# Altium footprint library Amplifier.PcbLib: 107 footprints (part 7 of 7)
Each footprint in its own frame and in the unit in brackets; x right, y up, seen from the top. Pads: shape width x height; smd on the part's side, far side on the other; paste and mask are expansions set on the pad; w line width, h text height; cw(c..) or ccw(c..) is an arc to the next point about the centre after c.
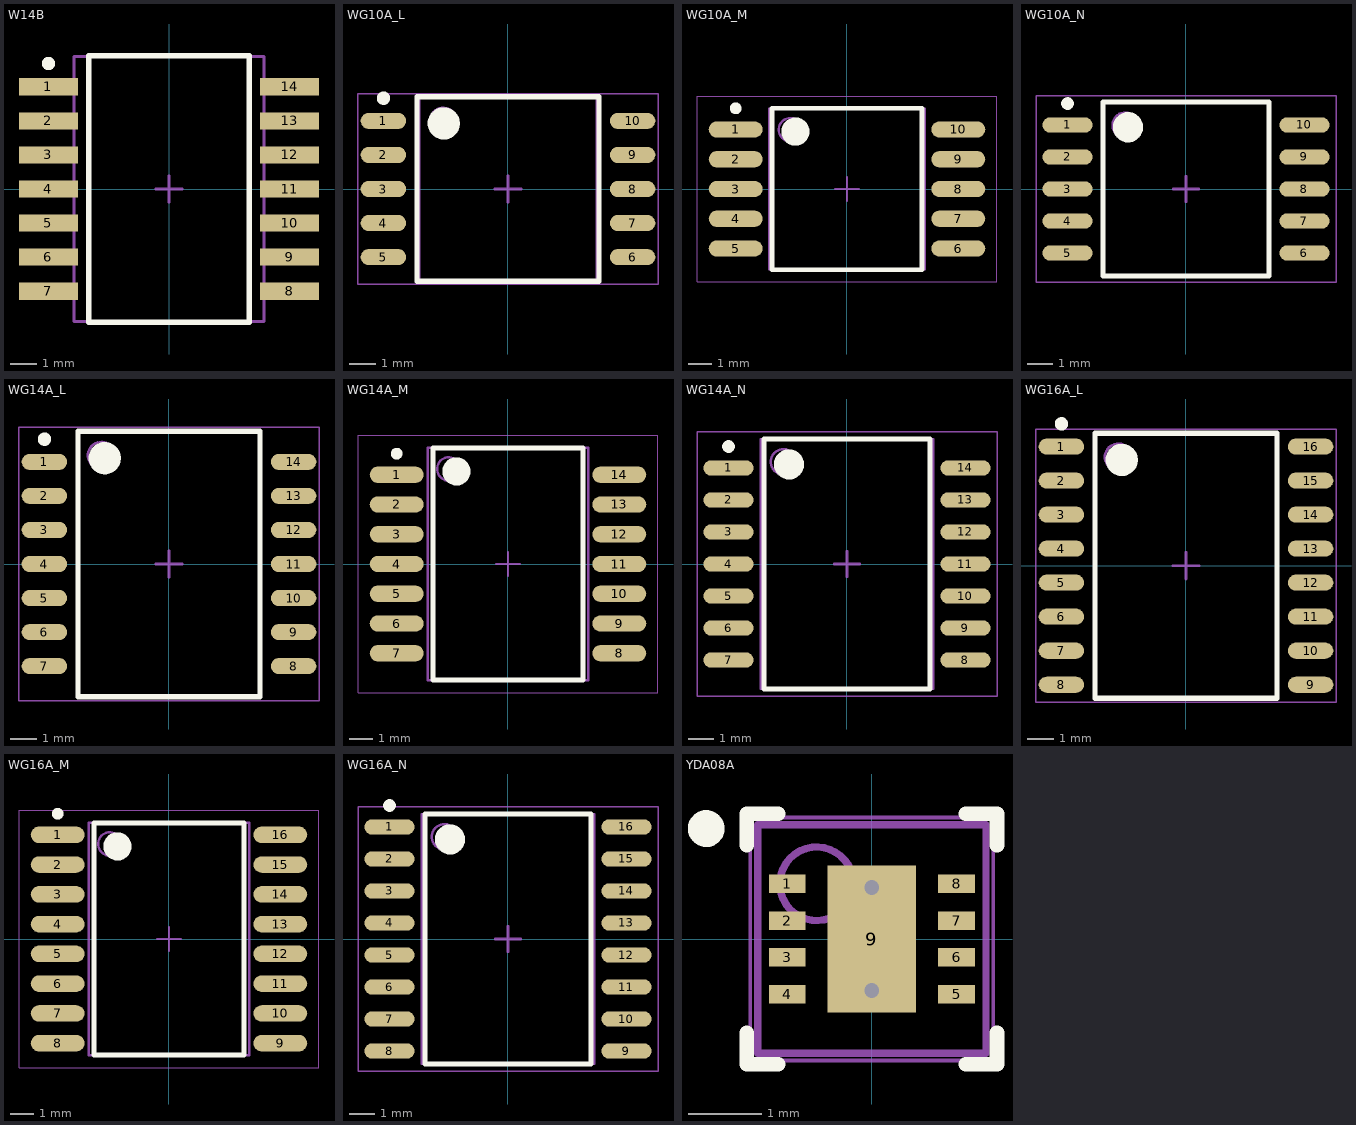
[diagram p6: the footprints below, top view; thin cyan lines are the x and y axes]

## W14B [mm] "DFP; 14 Leads; Body 9.9 x 6.6 mm (LxW max); Pitch 1.27 mm"
height 2.04
pads (14):
  rect 2.2x0.65 smd: 1(-4.5,3.81) 2(-4.5,2.54) 3(-4.5,1.27) 4(-4.5,0) 5(-4.5,-1.27) 6(-4.5,-2.54) 7(-4.5,-3.81) 8(4.5,-3.81) 9(4.5,-2.54) 10(4.5,-1.27) 11(4.5,0) 12(4.5,1.27) 13(4.5,2.54) 14(4.5,3.81)
Top Overlay:
  circle w0.25: c-4.5,4.685 r0.125
  lines w0.2: -3,-4.975 3,-4.975 3,4.975 -3,4.975 -3,-4.975
Mechanical 13:
  lines w0.1: -3.55,-4.95 -3.55,4.95 3.55,4.95 3.55,-4.95 -3.55,-4.95
Mechanical 15:
  lines w0.1: -0.5,0 0.5,0 ; 0,-0.5 0,0.5
3D body: height 2.04, standoff 0, extent -3.549,-4.949 3.549,4.949

## WG10A_L [mm] "CERPACK, 10-Leads, Body 6.9x6.3mm, Pitch 1.27mm, IPC High Density"
height 2.25
pads (10):
  oval 1.7x0.6 smd: 1(-4.65,2.54) 2(-4.65,1.27) 3(-4.65,0) 4(-4.65,-1.27) 5(-4.65,-2.54) 6(4.65,-2.54) 7(4.65,-1.27) 8(4.65,0) 9(4.65,1.27) 10(4.65,2.54)
Top Overlay:
  circle w0.25: c-4.65,3.39 r0.125
  circle w0.6: c-2.4,2.45 r0.3
  lines w0.2: -3.4,-3.45 -3.4,3.45 3.4,3.45 3.4,-3.45 -3.4,-3.45
Mechanical 13:
  circle w0.1: c-2.415,2.53 r0.5
  lines w0.1: -3.315,-3.43 -3.315,3.43 3.315,3.43 3.315,-3.43 -3.315,-3.43
Mechanical 15:
  lines w0.05: -5.6,-3.55 -5.6,3.55 5.6,3.55 5.6,-3.55 -5.6,-3.55
  lines w0.1: -0.5,0 0.5,0 ; 0,-0.5 0,0.5
3D body: height 2.25, standoff 0.1, extent -3.315,-3.43 3.315,3.43

## WG10A_M [mm] "CERPACK, 10-Leads, Body 6.9x6.3mm, Pitch 1.27mm, IPC Low Density"
height 2.25
pads (10):
  oval 2.3x0.7 smd: 1(-4.75,2.54) 2(-4.75,1.27) 3(-4.75,0) 4(-4.75,-1.27) 5(-4.75,-2.54) 6(4.75,-2.54) 7(4.75,-1.27) 8(4.75,0) 9(4.75,1.27) 10(4.75,2.54)
Top Overlay:
  circle w0.25: c-4.75,3.44 r0.125
  circle w0.6: c-2.2,2.45 r0.3
  lines w0.2: -3.2,-3.45 -3.2,3.45 3.2,3.45 3.2,-3.45 -3.2,-3.45
Mechanical 13:
  circle w0.1: c-2.415,2.53 r0.5
  lines w0.1: -3.315,-3.43 -3.315,3.43 3.315,3.43 3.315,-3.43 -3.315,-3.43
Mechanical 15:
  lines w0.05: -6.4,-3.95 -6.4,3.95 6.4,3.95 6.4,-3.95 -6.4,-3.95
  lines w0.1: -0.5,0 0.5,0 ; 0,-0.5 0,0.5
3D body: height 2.25, standoff 0.1, extent -3.315,-3.43 3.315,3.43

## WG10A_N [mm] "CERPACK, 10-Leads, Body 6.9x6.3mm, Pitch 1.27mm, IPC Medium Density"
height 2.25
pads (10):
  oval 2x0.6 smd: 1(-4.7,2.54) 2(-4.7,1.27) 3(-4.7,0) 4(-4.7,-1.27) 5(-4.7,-2.54) 6(4.7,-2.54) 7(4.7,-1.27) 8(4.7,0) 9(4.7,1.27) 10(4.7,2.54)
Top Overlay:
  circle w0.25: c-4.7,3.39 r0.125
  circle w0.6: c-2.3,2.45 r0.3
  lines w0.2: -3.3,-3.45 -3.3,3.45 3.3,3.45 3.3,-3.45 -3.3,-3.45
Mechanical 13:
  circle w0.1: c-2.415,2.53 r0.5
  lines w0.1: -3.315,-3.43 -3.315,3.43 3.315,3.43 3.315,-3.43 -3.315,-3.43
Mechanical 15:
  lines w0.05: -5.95,-3.7 -5.95,3.7 5.95,3.7 5.95,-3.7 -5.95,-3.7
  lines w0.1: -0.5,0 0.5,0 ; 0,-0.5 0,0.5
3D body: height 2.25, standoff 0.1, extent -3.315,-3.43 3.315,3.43

## WG14A_L [mm] "CERPACK, 14-Leads, Body 9.9x6.5mm, Pitch 1.27mm, IPC High Density"
height 2.24
pads (14):
  oval 1.7x0.6 smd: 1(-4.65,3.81) 2(-4.65,2.54) 3(-4.65,1.27) 4(-4.65,0) 5(-4.65,-1.27) 6(-4.65,-2.54) 7(-4.65,-3.81) 8(4.65,-3.81) 9(4.65,-2.54) 10(4.65,-1.27) 11(4.65,0) 12(4.65,1.27) 13(4.65,2.54) 14(4.65,3.81)
Top Overlay:
  circle w0.25: c-4.65,4.66 r0.125
  circle w0.6: c-2.4,3.95 r0.3
  lines w0.2: -3.4,-4.95 -3.4,4.95 3.4,4.95 3.4,-4.95 -3.4,-4.95
Mechanical 13:
  circle w0.1: c-2.525,4.055 r0.5
  lines w0.1: -3.425,-4.955 -3.425,4.955 3.425,4.955 3.425,-4.955 -3.425,-4.955
Mechanical 15:
  lines w0.05: -5.6,-5.1 -5.6,5.1 5.6,5.1 5.6,-5.1 -5.6,-5.1
  lines w0.1: -0.5,0 0.5,0 ; 0,-0.5 0,0.5
3D body: height 2.24, standoff 0.1, extent -3.425,-4.955 3.425,4.955

## WG14A_M [mm] "CERPACK, 14-Leads, Body 9.9x6.5mm, Pitch 1.27mm, IPC Low Density"
height 2.24
pads (14):
  oval 2.3x0.7 smd: 1(-4.75,3.81) 2(-4.75,2.54) 3(-4.75,1.27) 4(-4.75,0) 5(-4.75,-1.27) 6(-4.75,-2.54) 7(-4.75,-3.81) 8(4.75,-3.81) 9(4.75,-2.54) 10(4.75,-1.27) 11(4.75,0) 12(4.75,1.27) 13(4.75,2.54) 14(4.75,3.81)
Top Overlay:
  circle w0.25: c-4.75,4.71 r0.125
  circle w0.6: c-2.2,3.95 r0.3
  lines w0.2: -3.2,-4.95 -3.2,4.95 3.2,4.95 3.2,-4.95 -3.2,-4.95
Mechanical 13:
  circle w0.1: c-2.525,4.055 r0.5
  lines w0.1: -3.425,-4.955 -3.425,4.955 3.425,4.955 3.425,-4.955 -3.425,-4.955
Mechanical 15:
  lines w0.05: -6.4,-5.5 -6.4,5.5 6.4,5.5 6.4,-5.5 -6.4,-5.5
  lines w0.1: -0.5,0 0.5,0 ; 0,-0.5 0,0.5
3D body: height 2.24, standoff 0.1, extent -3.425,-4.955 3.425,4.955

## WG14A_N [mm] "CERPACK, 14-Leads, Body 9.9x6.5mm, Pitch 1.27mm, IPC Medium Density"
height 2.24
pads (14):
  oval 2x0.6 smd: 1(-4.7,3.81) 2(-4.7,2.54) 3(-4.7,1.27) 4(-4.7,0) 5(-4.7,-1.27) 6(-4.7,-2.54) 7(-4.7,-3.81) 8(4.7,-3.81) 9(4.7,-2.54) 10(4.7,-1.27) 11(4.7,0) 12(4.7,1.27) 13(4.7,2.54) 14(4.7,3.81)
Top Overlay:
  circle w0.25: c-4.7,4.66 r0.125
  circle w0.6: c-2.3,3.95 r0.3
  lines w0.2: -3.3,-4.95 -3.3,4.95 3.3,4.95 3.3,-4.95 -3.3,-4.95
Mechanical 13:
  circle w0.1: c-2.525,4.055 r0.5
  lines w0.1: -3.425,-4.955 -3.425,4.955 3.425,4.955 3.425,-4.955 -3.425,-4.955
Mechanical 15:
  lines w0.05: -5.95,-5.25 -5.95,5.25 5.95,5.25 5.95,-5.25 -5.95,-5.25
  lines w0.1: -0.5,0 0.5,0 ; 0,-0.5 0,0.5
3D body: height 2.24, standoff 0.1, extent -3.425,-4.955 3.425,4.955

## WG16A_L [mm] "CERPACK, 16-Leads, Body 9.9x6.5mm, Pitch 1.27mm, IPC High Density"
height 2.24
pads (16):
  oval 1.7x0.6 smd: 1(-4.65,4.445) 2(-4.65,3.175) 3(-4.65,1.905) 4(-4.65,0.635) 5(-4.65,-0.635) 6(-4.65,-1.905) 7(-4.65,-3.175) 8(-4.65,-4.445) 9(4.65,-4.445) 10(4.65,-3.175) 11(4.65,-1.905) 12(4.65,-0.635) 13(4.65,0.635) 14(4.65,1.905) 15(4.65,3.175) 16(4.65,4.445)
Top Overlay:
  circle w0.25: c-4.65,5.295 r0.125
  circle w0.6: c-2.4,3.95 r0.3
  lines w0.2: -3.4,-4.95 -3.4,4.95 3.4,4.95 3.4,-4.95 -3.4,-4.95
Mechanical 13:
  circle w0.1: c-2.525,4.055 r0.5
  lines w0.1: -3.425,-4.955 -3.425,4.955 3.425,4.955 3.425,-4.955 -3.425,-4.955
Mechanical 15:
  lines w0.05: -5.6,-5.1 -5.6,5.1 5.6,5.1 5.6,-5.1 -5.6,-5.1
  lines w0.1: -0.5,0 0.5,0 ; 0,-0.5 0,0.5
3D body: height 2.24, standoff 0.1, extent -3.425,-4.955 3.425,4.955

## WG16A_M [mm] "CERPACK, 16-Leads, Body 9.9x6.5mm, Pitch 1.27mm, IPC Low Density"
height 2.24
pads (16):
  oval 2.3x0.7 smd: 1(-4.75,4.445) 2(-4.75,3.175) 3(-4.75,1.905) 4(-4.75,0.635) 5(-4.75,-0.635) 6(-4.75,-1.905) 7(-4.75,-3.175) 8(-4.75,-4.445) 9(4.75,-4.445) 10(4.75,-3.175) 11(4.75,-1.905) 12(4.75,-0.635) 13(4.75,0.635) 14(4.75,1.905) 15(4.75,3.175) 16(4.75,4.445)
Top Overlay:
  circle w0.25: c-4.75,5.345 r0.125
  circle w0.6: c-2.2,3.95 r0.3
  lines w0.2: -3.2,-4.95 -3.2,4.95 3.2,4.95 3.2,-4.95 -3.2,-4.95
Mechanical 13:
  circle w0.1: c-2.525,4.055 r0.5
  lines w0.1: -3.425,-4.955 -3.425,4.955 3.425,4.955 3.425,-4.955 -3.425,-4.955
Mechanical 15:
  lines w0.05: -6.4,-5.5 -6.4,5.5 6.4,5.5 6.4,-5.5 -6.4,-5.5
  lines w0.1: -0.5,0 0.5,0 ; 0,-0.5 0,0.5
3D body: height 2.24, standoff 0.1, extent -3.425,-4.955 3.425,4.955

## WG16A_N [mm] "CERPACK, 16-Leads, Body 9.9x6.5mm, Pitch 1.27mm, IPC Medium Density"
height 2.24
pads (16):
  oval 2x0.6 smd: 1(-4.7,4.445) 2(-4.7,3.175) 3(-4.7,1.905) 4(-4.7,0.635) 5(-4.7,-0.635) 6(-4.7,-1.905) 7(-4.7,-3.175) 8(-4.7,-4.445) 9(4.7,-4.445) 10(4.7,-3.175) 11(4.7,-1.905) 12(4.7,-0.635) 13(4.7,0.635) 14(4.7,1.905) 15(4.7,3.175) 16(4.7,4.445)
Top Overlay:
  circle w0.25: c-4.7,5.295 r0.125
  circle w0.6: c-2.3,3.95 r0.3
  lines w0.2: -3.3,-4.95 -3.3,4.95 3.3,4.95 3.3,-4.95 -3.3,-4.95
Mechanical 13:
  circle w0.1: c-2.525,4.055 r0.5
  lines w0.1: -3.425,-4.955 -3.425,4.955 3.425,4.955 3.425,-4.955 -3.425,-4.955
Mechanical 15:
  lines w0.05: -5.95,-5.25 -5.95,5.25 5.95,5.25 5.95,-5.25 -5.95,-5.25
  lines w0.1: -0.5,0 0.5,0 ; 0,-0.5 0,0.5
3D body: height 2.24, standoff 0.1, extent -3.425,-4.955 3.425,4.955

## YDA08A [mm] "PSON, 8-Leads, Body 3x3mm, Pitch 0.5mm, NSC Recommended"
height 0.8
pads (9):
  rect 0.5x0.25 smd paste-0.125 mask+0.051: 1(-1.15,0.75) 2(-1.15,0.25) 3(-1.15,-0.25) 4(-1.15,-0.75) 5(1.15,-0.75) 6(1.15,-0.25) 7(1.15,0.25) 8(1.15,0.75)
  rect 1.2x2 smd paste-0.6 mask+0.051: 9(0,0)
via 0,0.7 diameter 0.5 hole 0.2
via 0,-0.7 diameter 0.5 hole 0.2
Top Overlay:
  circle w0.25: c-2.25,1.5 r0.125
  lines w0.2: -1.7,-1.275 -1.7,-1.7 -1.275,-1.7 ; -1.7,1.275 -1.7,1.7 -1.275,1.7 ; 1.275,-1.7 1.7,-1.7 1.7,-1.275 ; 1.275,1.7 1.7,1.7 1.7,1.275
Top Paste:
  rectangle: -0.57,-0.95 0.57,0.95
  region: -1.5,-0.625 -1.5,-0.875 -1,-0.875 -1,-0.625
  region: -1.5,-0.125 -1.5,-0.375 -1,-0.375 -1,-0.125
  region: -1.5,0.375 -1.5,0.125 -1,0.125 -1,0.375
  region: -1.5,0.875 -1.5,0.625 -1,0.625 -1,0.875
  region: 1,-0.625 1,-0.875 1.5,-0.875 1.5,-0.625
  region: 1,-0.125 1,-0.375 1.5,-0.375 1.5,-0.125
  region: 1,0.375 1,0.125 1.5,0.125 1.5,0.375
  region: 1,0.875 1,0.625 1.5,0.625 1.5,0.875
Mechanical 13:
  circle w0.1: c-0.75,0.75 r0.5
  lines w0.1: -1.55,-1.55 -1.55,1.55 1.55,1.55 1.55,-1.55 -1.55,-1.55
Mechanical 15:
  lines w0.05: -1.65,-1.65 -1.65,1.65 1.65,1.65 1.65,-1.65 -1.65,-1.65
  lines w0.1: -0.5,0 0.5,0 ; 0,-0.5 0,0.5
3D body: height 0.8, standoff 0, extent -1.55,-1.55 1.55,1.55